# EAGLE library part IC_LTC4085 (library 0kaz)
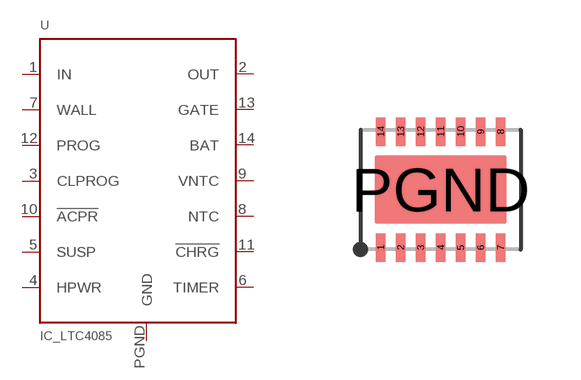
[diagram p2: symbol with the pads of DFN-14; footprint DFN-14]

Designator prefix -

## IC_LTC4085  [DFN-14]
1  IN
2  OUT
3  CLPROG
4  HPWR
5  SUSP
6  TIMER
7  WALL
8  NTC
9  VNTC
10  !ACPR!
11  !CHRG!
12  PROG
13  GATE
14  BAT
PGND  GND

## Footprint DFN-14 (pad centres in mm)
smd 0.25 x 0.7: 1 -1.5,-1.45; 2 -1,-1.45; 3 -0.5,-1.45; 4 0,-1.45; 5 0.5,-1.45; 6 1,-1.45; 7 1.5,-1.45; 8 1.5,1.45; 9 1,1.45; 10 0.5,1.45; 11 0,1.45; 12 -0.5,1.45; 13 -1,1.45; 14 -1.5,1.45
smd 3.3 x 1.7: PGND 0,0